# Altium schematic symbol library MCP73812.SchLib: 1 symbol
Pins are listed as number, name and electrical type; pins without a type are passive.

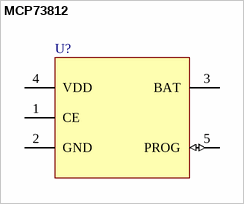
[diagram p0: symbol MCP73812]

## MCP73812
designator U?
ID: MCP73811T-420I/OT; PDF: http://ww1.microchip.com/downloads/en/DeviceDoc/22036b.pdf; PRICE: 0.61000; BUY_LINK: http://www.digikey.com/product-detail/en/MCP73811T-420I%2FOT/MCP73811T-420I%2FOTCT-ND/1649474
footprint SOT23-5
pins: 1 CE (power), 2 GND (power), 3 BAT (power), 4 VDD (power), 5 PROG (io)